# EAGLE library part LM393_P_8 (library takeyama)
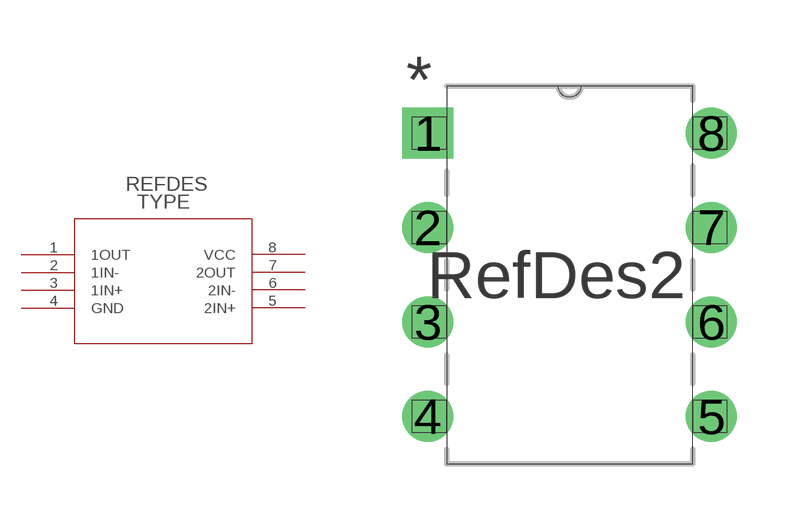
[diagram p5: symbol with the pads of P8; footprint P8]

Designator prefix U

## LM393_P_8  [P8]
1  1OUT  pas
2  1IN-  pas
3  1IN+  pas
4  GND  pas
5  2IN+  pas
6  2IN-  pas
7  2OUT  pas
8  VCC  pas

## Footprint P8 (pad centres in mm)
drill 0.864 square: 1 -7.62,7.62
drill 0.864: 2 -7.62,5.08; 3 -7.62,2.54; 4 -7.62,0; 5 0,0; 6 0,2.54; 7 0,5.08; 8 0,7.62